# Altium integrated library pca63550.IntLib: 18 symbols
Pins are listed as number, name and electrical type; pins without a type are passive.

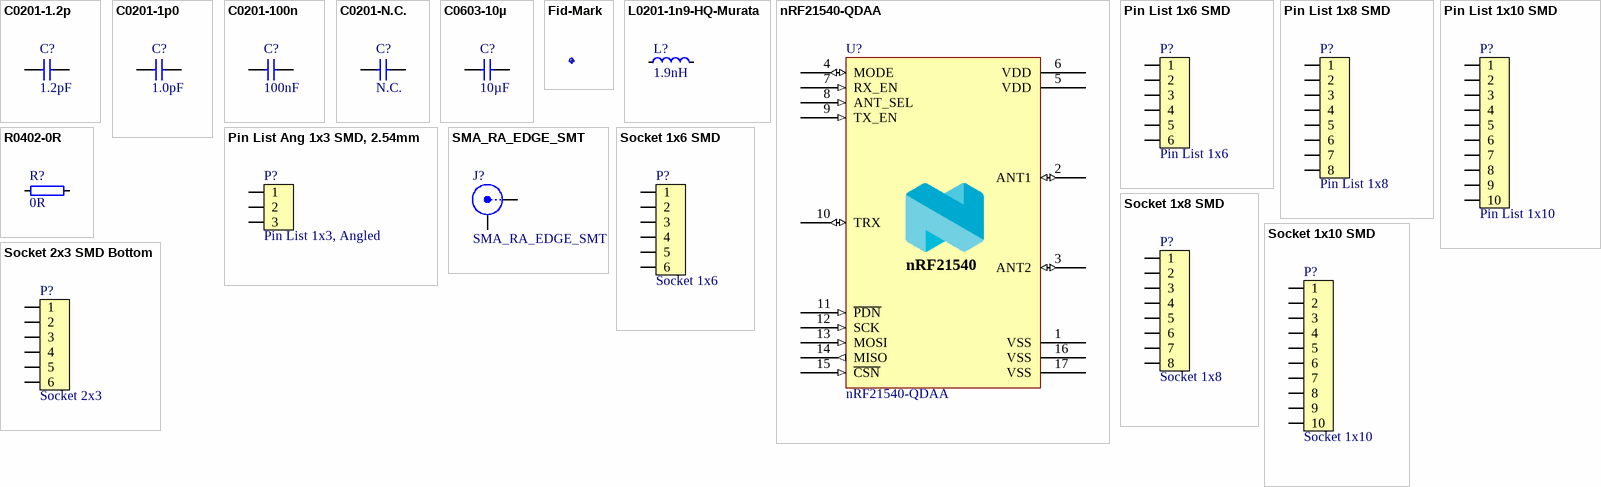
[diagram p0: symbols C0201-1.2p to Socket 2x3 SMD Bottom]

## C0201-1.2p
designator C?, comment 1.2pF
Chip Cap 0201; Part Number: C0201-1.2p; Note: Chip Cap 1%; Artikkelnr Noca: N.A.; ComponentLink1Description: Datasheet; ComponentLink2Description: Supplier link; Footprint Doc: 0201; LatestRevisionDate: 2014-11-13; Pin Count: 2; Publisher: Nordic Semiconductor; Published: 2014-11-13; Value: 1.2pF; Part number IPS: N.A.
footprint CAPC0603X03L_C
pins: 1, 2

## C0201-1p0
designator C?, comment 1.0pF
CAP CER 1PF 25V C0G/NP0 0201; Part Number: C0201-1p0; Manufacturer: Murata; Manufacturer Part Number: GJM0335C1E1R0BB01D; Note: ±0.1pF; Artikkelnr Noca: N.A.; ComponentLink1Description: Datasheet; ComponentLink2Description: Supplier link; HelpURL: http://search.murata.co.jp/Ceramy/image/img/A01X/G101/ENG/GJM0335C1E1R0BB01-01.pdf; Footprint Doc: 0201; LatestRevisionDate: 2017-09-21; Pin Count: 2; Publisher: Nordic Semiconductor; Published: 2017-09-21; Value: 1.0pF; Part number IPS: N.A.; Supplier 1: Digi-Key; Supplier Part Number 1: 490-11172-1-ND
footprint CAPC0603X03L_C
pins: 1, 2

## C0201-100n
designator C?, comment 100nF
Capacitor, X5R, ±10%; Part Number: C0201-100n; Part number IPS: 00000001248, 00000002505; Note: 16V; Artikkelnr Noca: N.A.; ComponentLink1Description: Datasheet; ComponentLink2Description: Supplier link; Footprint Doc: 0201; LatestRevisionDate: 2017-11-09; Pin Count: 2; Publisher: Nordic Semiconductor; Published: 2014-11-13; Value: 100nF
footprint CAPC0603X03L_C
pins: 1, 2

## C0201-N.C.
designator C?, comment N.C.
Not mounted; Part Number: C0201-N.C.; Assembly: Not mounted; Note: Chip Cap; Artikkelnr Noca: N.A.; Manufacturer: *; Manufacturer Part Number: *; ComponentLink1URL: *; ComponentLink1Description: Datasheet; ComponentLink2URL: *; ComponentLink2Description: Supplier link; HelpURL: *; Footprint Doc: 0201; LatestRevisionDate: 2014-11-13; Pin Count: 2; Publisher: Nordic Semiconductor; Published: 2014-11-13; Value: N.C.; Supplier 1: *; Supplier Part Number 1: *; Supplier 2: *; Supplier Part Number 2: *; Part number IPS: N.A.
footprint CAPC0603X03L_C_NC
pins: 1, 2

## C0603-10µ
designator C?, comment 10µF
Capacitor, X5R, ±20%; Part Number: C0603-10µ; Part number IPS: 00000007785; Note: 6.3V; Artikkelnr Noca: 20039234; ComponentLink1Description: Datasheet; ComponentLink2Description: Supplier link; Footprint Doc: 0603; LatestRevisionDate: 2011-01-17; Pin Count: 2; Publisher: Nordic Semiconductor; Published: 2011-01-17; Value: 10µF
footprint CAPC1608X06L
pins: 1, 2

## Fid-Mark
designator Fid?, comment Fiducial mark  (value not drawn)  (no BOM)
Part Number: Fid-Mark; Artikkelnr Noca: N.A.; LatestRevisionDate: 2009-12-12; Pin Count: 1; Publisher: Nordic Semiconductor; Published: 2009-12-12; Footprint Doc: Fiducial; ComponentLink1Description: Datasheet; ComponentLink2Description: Supplier link; Part number IPS: N.A.
footprint Fiducial

## L0201-1n9-HQ-Murata
designator L?, comment 1.9nH
Inductor, 600mA, ±0.1ｎH, 120mOhm; Part Number: L0201-1n9-HQ-Murata; Manufacturer: Murata; Manufacturer Part Number: LQP03HQ1N9B02; Note: -55°C ~ 125°C; Artikkelnr Noca: N.A.; ComponentLink1URL: https://search.murata.co.jp/Ceramy/image/img/P02/JELF243C-0021.pdf; ComponentLink1Description: Datasheet; ComponentLink2Description: Supplier link; HelpURL: https://psearch.en.murata.com/inductor/product/LQP03HQ1N9B02%23.html; Footprint Doc: 0201; LatestRevisionDate: 2018-10-23; Pin Count: 2; Publisher: Nordic Semiconductor; Published: 2018-10-23; Value: 1.9nH; Part number IPS: N.A.; ComponentLink2URL: *; Supplier 1: Digi-Key; Supplier Part Number 1: 490-13889-1-ND; Supplier 2: *; Supplier Part Number 2: *
footprint INDC0603X03L_C
pins: 1, 2

## nRF21540-QDAA
designator U?
Radio front-end / range extender for 2.4GHz; Manufacturer: Nordic Semiconductor; Artikkelnr Noca: N.A.; Part Number: nRF21540-QDAA; Manufacturer Part Number: *; ComponentLink1URL: *; ComponentLink1Description: Datasheet; ComponentLink2URL: *; ComponentLink2Description: Supplier link; HelpURL: *; Footprint Doc: QFN-16; LatestRevisionDate: 2019-11-27; Pin Count: 16; Publisher: Nordic Semiconductor; Published: 2017-09-20; Value: nRF21540-QDAA; Note: *; Part number IPS: N.A.; Supplier 1: Nordic Semiconductor; Supplier Part Number 1: nRF21540-QDAA; Supplier 2: *; Supplier Part Number 2: *
footprint QFN65P400X400X65_HS-17N
pins: 1 VSS (power), 2 ANT1 (io), 3 ANT2 (io), 4 MODE (io), 5 VDD (power), 6 VDD (power), 7 RX_EN (in), 8 ANT_SEL (in), 9 TX_EN (in), 10 TRX (io), 11 ~{PDN} (in), 12 SCK (in), 13 MOSI (in), 14 MISO (out), 15 ~{CSN} (in), 16 VSS (power), 17 VSS (power)
text: nRF21540

## Pin List 1x6 SMD
designator P?, comment Pin List 1x6
Pin List 1x6, 2.54mm (100mil), SMD; Part Number: Pin List 1x6 SMD; Manufacturer: W-CON; Manufacturer Part Number: 1125-1106S0M116R2; Part number IPS: N.A.; Artikkelnr Noca: 55010026; LatestRevisionDate: 2016-03-29; Pin Count: 6; Publisher: Nordic Semiconductor; Published: 2016-03-29; Value: Pin List 1x6; Footprint Doc: LIST_1x6_SMD; ComponentLink1Description: Datasheet; ComponentLink2Description: Supplier link; HelpURL: \\hizz\pro\app9717\Datasheet\connectors\W-CON\1125-11XXXXMXXXXX.pdf; Supplier 1: Cabcon; Supplier Part Number 1: 1125-1106S0M116R2; Supplier 2: Samtec; Supplier Part Number 2: TSM-106-01-L-SV-P-TR
footprint LIST_1x6_SMD
pins: 1, 2, 3, 4, 5, 6

## Pin List 1x8 SMD
designator P?, comment Pin List 1x8
Pin List 1x8, 2.54mm (100mil), SMD; Part Number: Pin List 1x8 SMD; Manufacturer: W-CON; Manufacturer Part Number: 1125-1108S0M116R2; Part number IPS: N.A.; Artikkelnr Noca: 55010006; LatestRevisionDate: 2016-01-22; Publisher: Nordic Semiconductor; Published: 2016-01-22; Value: Pin List 1x8; Pin Count: 8; Footprint Doc: LIST_1x8_SMD; ComponentLink1Description: Datasheet; ComponentLink2Description: Supplier link; HelpURL: \\hizz\pro\app9717\Datasheet\connectors\W-CON\1125-11XXXXMXXXXX.pdf; Supplier 1: Cabcon; Supplier Part Number 1: 1125-1108S0M116R2; Supplier 2: Samtec; Supplier Part Number 2: TSM-108-01-L-SV-P-TR
footprint LIST_1x8_SMD
pins: 1, 2, 3, 4, 5, 6, 7, 8

## Pin List 1x10 SMD
designator P?, comment Pin List 1x10
Pin List 1x10, 2.54mm (100mil), SMD; Part Number: Pin List 1x10 SMD; Manufacturer: W-CON; Manufacturer Part Number: 1125-1110S0M116R2; Part number IPS: N.A.; Artikkelnr Noca: 55010028; LatestRevisionDate: 2016-03-29; Publisher: Nordic Semiconductor; Published: 2016-03-29; Value: Pin List 1x10; Pin Count: 10; Footprint Doc: LIST_1x10_SMD; ComponentLink1Description: Datasheet; ComponentLink2Description: Supplier link; HelpURL: \\hizz\pro\app9717\Datasheet\connectors\W-CON\1125-11XXXXMXXXXX.pdf; Supplier 1: Cabcon; Supplier Part Number 1: 1125-1110S0M116R2; Supplier 2: Samtec; Supplier Part Number 2: TSM-110-01-L-SV-P-TR
footprint LIST_1x10_SMD
pins: 1, 2, 3, 4, 5, 6, 7, 8, 9, 10

## Pin List Ang 1x3 SMD, 2.54mm
designator P?, comment Pin List 1x3, Angled
Pin List 1x3, 2.54mm (100mil), Right Angled, SMD; Part Number: Pin List Ang 1x3 SMD, 2.54mm; Manufacturer: W-CON; Manufacturer Part Number: 1125B-1103S0Z135R2; Part number IPS: 00000009971; Artikkelnr Noca: 55010027; Footprint Doc: LIST_ANG_1x3-SMD-2.54MM; LatestRevisionDate: 2016-05-26; Pin Count: 3; Publisher: Nordic Semiconductor; Published: 2015-01-23; Value: Pin List 1x3, Angled; ComponentLink1Description: Datasheet; ComponentLink2Description: Supplier link; Supplier 1: Cabcon; Supplier Part Number 1: 1125B-1103S0Z135R2; Supplier 2: Samtec; Supplier Part Number 2: TSM-103-01-L-SH-A
footprint LIST_ANG_1x3-SMD-2.54MM
pins: 1, 2, 3

## R0402-0R
designator R?, comment 0R
Resistor, ±5%, 0.063W; Part Number: R0402-0R; Part number IPS: 00000007128; Note: Chip Res 5%; Artikkelnr Noca: 27049000; LatestRevisionDate: 2009-11-23; Pin Count: 2; Publisher: Nordic Semiconductor; Published: 2009-05-08; Value: 0R; Footprint Doc: 0402; ComponentLink1Description: Datasheet; ComponentLink2Description: Supplier link; Supplier 1: Farnell; Supplier Part Number 1: 146-9661
footprint RESC1005X04L
pins: 1, 2

## SMA_RA_EDGE_SMT
designator J?, comment Part Number: SMA_RA_EDGE_SMT  (hidden comment: SMA_2081005-1)
SMA, Female, Right Angle, TH/SMT, 50Ohm, Board Edge; Manufacturer: CompuPack; Manufacturer Part Number: ARFRBE22029-GGP; Artikkelnr Noca: N.A.; Value: SMA_2081005-1; Supplier 1: Cabcon; Supplier Part Number 1: C-Q1911001; ComponentLink1Description: Datasheet; ComponentLink2Description: Supplier link; Footprint Doc: SMA; LatestRevisionDate: 2020-06-05; Pin Count: 2; Published: 2020-06-05; Publisher: Nordic Semiconductor; Part number IPS: N.A.
footprint SMA_2081005-1
pins: 1 X, 2 Y

## Socket 1x6 SMD
designator P?, comment Socket 1x6
Socket 1x6, 2.54mm (100mil), SMD; Part Number: Socket 1x6 SMD; Manufacturer: W-CON; Manufacturer Part Number: 2171-106MS0CUNR1; Part number IPS: 00000009964; Artikkelnr Noca: 55030001; LatestRevisionDate: 2017-10-23; Pin Count: 6; Publisher: Nordic Semiconductor; Published: 2016-01-22; Value: Socket 1x6; Footprint Doc: SOCKET_1x6_SMD; ComponentLink1Description: Datasheet; ComponentLink2Description: Supplier link; Supplier 1: Cabcon; Supplier Part Number 1: 2171-106MS0CUNR1; Supplier 2: Samtec; Supplier Part Number 2: SSM-106-F-SV-P-TR
footprint SOCKET_1x6_SMD
pins: 1, 2, 3, 4, 5, 6

## Socket 1x8 SMD
designator P?, comment Socket 1x8
Socket 1x8, 2.54mm (100mil), SMD; Part Number: Socket 1x8 SMD; Manufacturer: W-CON; Manufacturer Part Number: 2171-108MS0CUNR1; Part number IPS: 00000009963; Artikkelnr Noca: 55030002; LatestRevisionDate: 2017-10-23; Publisher: Nordic Semiconductor; Published: 2016-01-22; Value: Socket 1x8; Pin Count: 8; Footprint Doc: SOCKET_1x8_SMD; ComponentLink1Description: Datasheet; ComponentLink2Description: Supplier link; Supplier 1: Cabcon; Supplier Part Number 1: 2171-108MS0CUNR1; Supplier 2: Samtec; Supplier Part Number 2: SSM-108-F-SV-P-TR
footprint SOCKET_1x8_SMD
pins: 1, 2, 3, 4, 5, 6, 7, 8

## Socket 1x10 SMD
designator P?, comment Socket 1x10
Socket 1x10, 2.54mm (100mil), SMD; Part Number: Socket 1x10 SMD; Manufacturer: W-CON; Manufacturer Part Number: 2171-110MS0CUNR1; Part number IPS: 00000009965; Artikkelnr Noca: 55030004; LatestRevisionDate: 2016-01-22; Pin Count: 10; Publisher: Nordic Semiconductor; Published: 2016-01-22; Value: Socket 1x10; Footprint Doc: SOCKET_1x10_SMD; ComponentLink1Description: Datasheet; ComponentLink2Description: Supplier link; Supplier 1: Cabcon; Supplier Part Number 1: 2171-110MS0CUNR1; Supplier 2: Samtec; Supplier Part Number 2: SSM-110-F-SV-P-TR
footprint SOCKET_1x10_SMD
pins: 1, 2, 3, 4, 5, 6, 7, 8, 9, 10

## Socket 2x3 SMD Bottom
designator P?, comment Socket 2x3
Socket 2x3, 2.54mm (100mil), SMD; Part Number: Socket 2x3 SMD Bottom; Manufacturer: W-CON; Manufacturer Part Number: 2171-203MS0CUNR1; Part number IPS: N.A.; Artikkelnr Noca: 55030010; LatestRevisionDate: 2016-03-29; Pin Count: 6; Publisher: Nordic Semiconductor; Published: 2014-06-10; Value: Socket 2x3; Footprint Doc: SOCKET_2x3_SMD-2.54mm-bottom; ComponentLink1Description: Datasheet; ComponentLink2Description: Supplier link; HelpURL: \\hizz\pro\app9717\Datasheet\connectors\W-CON\2171-2XXMXXCUNXX.pdf; Supplier 1: Cabcon; Supplier Part Number 1: 2171-203MS0CUNR1; Supplier 2: Samtec; Supplier Part Number 2: SSM-103-F-DV-P-TR
footprint SOCKET_2x3_SMD-2.54mm-bottom
pins: 1, 2, 3, 4, 5, 6